# Altium schematic symbol library Omron.SchLib: 1 symbol
Pins are listed as number, name and electrical type; pins without a type are passive.

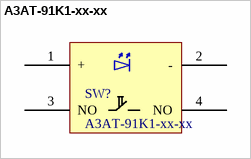
[diagram p0: symbol A3AT-91K1-xx-xx]

## A3AT-91K1-xx-xx
designator SW?
Omron
footprint A3AT-91-xx-xx
pins: 1 +, 2 -, 3 NO, 4 NO